# EAGLE library part 1825080-3 (library Switches)
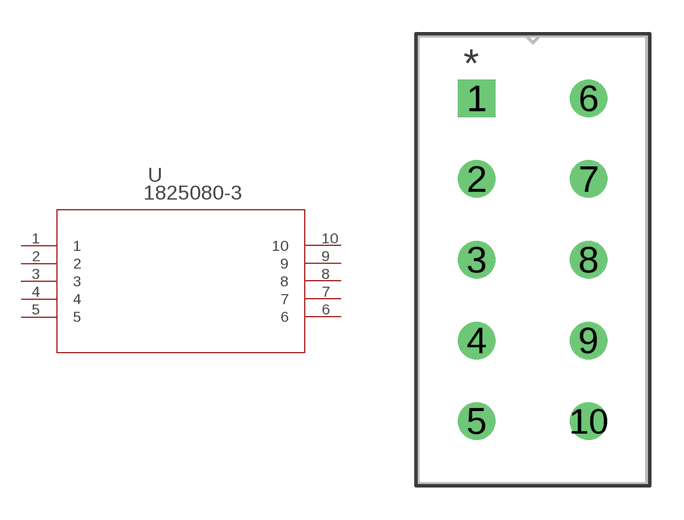
[diagram p41: symbol with the pads of SW10-B402X787_DIP; footprint SW10-B402X787_DIP]

Designator prefix U

## 1825080-3 (BUILT_BY: EMA_UL_Team; CATEGORY: Slide Switches; COPYRIGHT: Copyright (C) 2016 Accelerated Designs. All rights reserved; DESCRIPTION: SLS240PC04=SLIDE SWITCH,DP4T; MANUFACTURER_PART_NUMBER: 1825080-3; PART_STATUS: obsolete; SERIES: Unknown; VENDOR: TE Connectivity)  [SW10-B402X787_DIP]
1  1  pas
2  2  pas
3  3  pas
4  4  pas
5  5  pas
6  6  pas
7  7  pas
8  8  pas
9  9  pas
10  10  pas

## Footprint SW10-B402X787_DIP (pad centres in mm)
drill 1.118 pad 1.626 square: 1 -5.004,14.427
drill 1.118 pad 1.626: 2 -5.004,10.82; 3 -5.004,7.214; 4 -5.004,3.607; 5 -5.004,0; 6 0,14.427; 7 0,10.82; 8 0,7.214; 9 0,3.607; 10 0,0